# Altium schematic symbol library Sensors.SchLib: 1 symbol
Pins are listed as number, name and electrical type; pins without a type are passive.

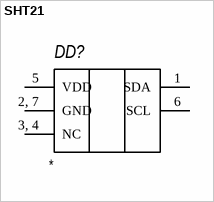
[diagram p0: symbol SHT21]

## SHT21
designator DD?
pins: 1 SDA, 2, 7 GND, 3, 4 NC, 5 VDD, 6 SCL